# Altium schematic symbol library Power-DCDC-PW2053.SchLib: 1 symbol
Pins are listed as number, name and electrical type; pins without a type are passive.

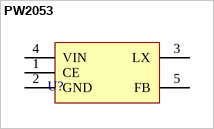
[diagram p0: symbol PW2053]

## PW2053
designator U?
pins: 1 CE, 2 GND, 3 LX, 4 VIN, 5 FB